# EAGLE library part PICAXE-18 (library PICAXE)
PICAXE-18 Controller 5 I/P, 8 O/P, 3 ADC
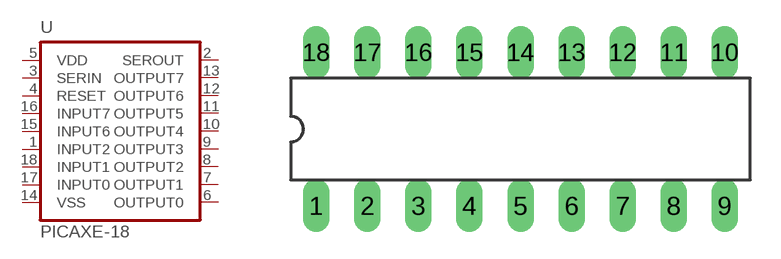
[diagram p1: symbol with the pads of DIL18; footprint DIL18]

Designator prefix U

## PICAXE-18  [DIL18]
1  INPUT2  in
2  SEROUT  out
3  SERIN  in
4  RESET  in
5  VDD  pwr
6  OUTPUT0  out
7  OUTPUT1  out
8  OUTPUT2  out
9  OUTPUT3  out
10  OUTPUT4  out
11  OUTPUT5  out
12  OUTPUT6  out
13  OUTPUT7  out
14  VSS  pwr
15  INPUT6  in
16  INPUT7  in
17  INPUT0  in
18  INPUT1  in

## Footprint DIL18 (pad centres in mm)
drill 0.813 long: 1 -8.89,-3.81; 2 -6.35,-3.81; 3 -3.81,-3.81; 4 -1.27,-3.81; 5 1.27,-3.81; 6 3.81,-3.81; 7 6.35,-3.81; 8 8.89,-3.81; 9 11.43,-3.81; 10 11.43,3.81; 11 8.89,3.81; 12 6.35,3.81; 13 3.81,3.81; 14 1.27,3.81; 15 -1.27,3.81; 16 -3.81,3.81; 17 -6.35,3.81; 18 -8.89,3.81